# EAGLE library part VIA_17 (library myFab)
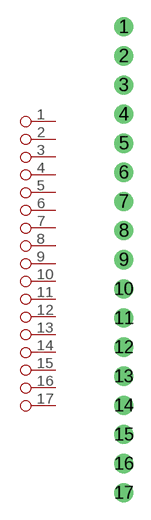
[diagram p34: symbol with the pads of VIA_17_CIRCULAR; footprint VIA_17_CIRCULAR]

Designator prefix -

## VIA_17  [VIA_17_CIRCULAR]
1  1
2  2
3  3
4  4
5  5
6  6
7  7
8  8
9  9
10  10
11  11
12  12
13  13
14  14
15  15
16  16
17  17

## Footprint VIA_17_CIRCULAR (pad centres in mm)
drill 0.9 pad 1.676: 1 0,0; 2 0,-2.54; 3 0,-5.08; 4 0,-7.62; 5 0,-10.16; 6 0,-12.7; 7 0,-15.24; 8 0,-17.78; 9 0,-20.32; 10 0,-22.86; 11 0,-25.4; 12 0,-27.94; 13 0,-30.48; 14 0,-33.02; 15 0,-35.56; 16 0,-38.1; 17 0,-40.64